# EAGLE library part TSC2007 (library tap_test)
TSC2007, Adafruit resistive touch screen controller
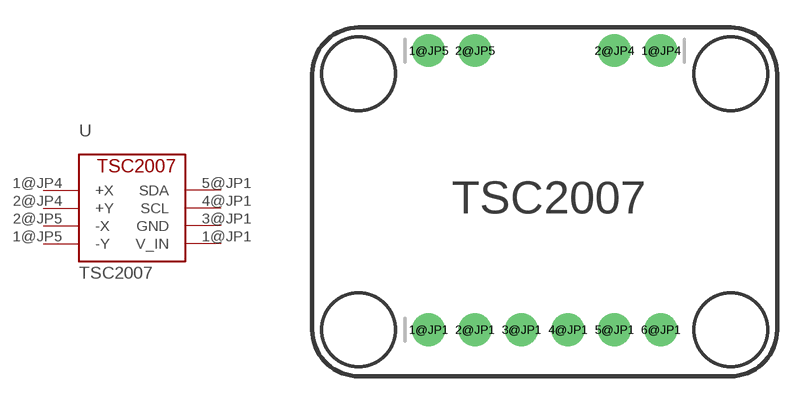
[diagram p2: symbol with the pads of TSC2007; footprint TSC2007]

Designator prefix U

## TSC2007  [TSC2007]
1@JP1  V_IN
1@JP4  +X
1@JP5  -Y
2@JP4  +Y
2@JP5  -X
3@JP1  GND
4@JP1  SCL
5@JP1  SDA

## Footprint TSC2007 (pad centres in mm)
Package generated by make-group2pac.ulp from: C:/Users/waywi/OneDrive - Rice University/Documents/EAGLE/projects/Adafruit TSC2007.brd at: 4/28/2023 7:03 AM
drill 1 pad 1.778: 1@JP1 6.35,2.54; 1@JP4 19.05,17.78; 1@JP5 6.35,17.78; 2@JP1 8.89,2.54; 2@JP4 16.51,17.78; 2@JP5 8.89,17.78; 3@JP1 11.43,2.54; 4@JP1 13.97,2.54; 5@JP1 16.51,2.54; 6@JP1 19.05,2.54